# Altium footprint library CN HDR 14POS SMD 1.5MM.PcbLib: 1 footprints
Each footprint in its own frame and in the unit in brackets; x right, y up, seen from the top. Pads: shape width x height; smd on the part's side, far side on the other; paste and mask are expansions set on the pad; w line width, h text height; cw(c..) or ccw(c..) is an arc to the next point about the centre after c.
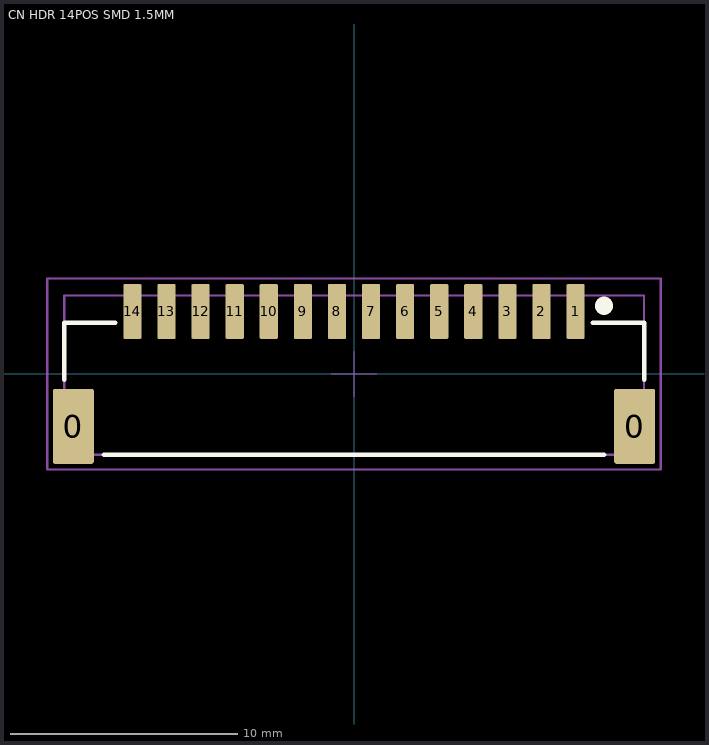
[diagram p0: the footprint, top view; thin cyan lines are the x and y axes]

## CN HDR 14POS SMD 1.5MM [mm] "Connector Header Surface Mount 14 position 0.059\" (1.50mm)"
height 7.493
pads (16):
  rrect10% 1.8x3.3 smd: 0(-12.35,-2.3) 0(12.35,-2.3)
  rrect10% 0.8x2.4 smd: 1(9.75,2.75) 2(8.25,2.75) 3(6.75,2.75) 4(5.25,2.75) 5(3.75,2.75) 6(2.25,2.75) 7(0.75,2.75) 8(-0.75,2.75) 9(-2.25,2.75) 10(-3.75,2.75) 11(-5.25,2.75) 12(-6.75,2.75) 13(-8.25,2.75) 14(-9.75,2.75)
Top Overlay:
  circle w0.8: c11,3 r0
  lines w0.2: -12.75,-0.25 -12.75,2.25 -10.5,2.25 ; -11,-3.55 11,-3.55 ; 10.511,2.25 12.761,2.25 12.761,-0.25
Mechanical 13:
  lines w0.1: -12.75,-3.55 12.761,-3.55 12.761,3.45 -12.75,3.45 -12.75,-3.55
Mechanical 15:
  lines w0.05: 0,-1 0,0 ; 0,1 0,0 ; 1,0 0,0 ; 0,0 -1,0 0,0
  lines w0.1: -13.5,-4.2 13.5,-4.2 13.5,4.2 -13.5,4.2 -13.5,-4.2